# Altium integrated library Passive Components.IntLib: 149 symbols (part 2 of 2)
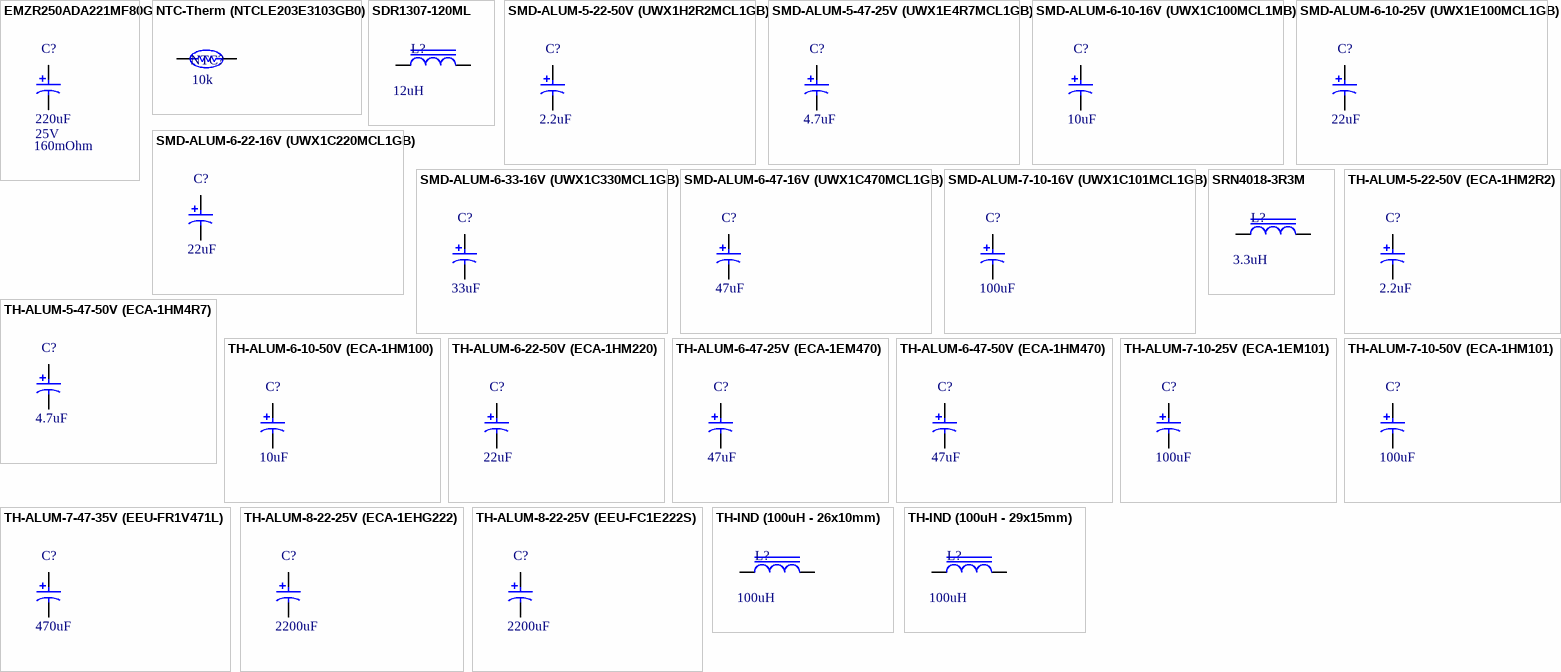
[diagram p6: symbols EMZR250ADA221MF80G to TH-IND (100uH - 29x15mm)]

## TH-ALUM-5-22-50V (ECA-1HM2R2)
designator C?, comment value 2.2uF  (hidden comment: Cap Aluminum)
CAP, ALUM, TH, 5x11mm, 2.2uF, 50V, 20%, Pitch 2mm; ReferencePart: ECA-1HM2R2; Voltage: 50V; ESR: *
footprint TH CAP-5X11MM-A1K2 (Aluminum Electrolytic Capacitor, Diameter 5mm, Height 11mm, Pitch 2mm)
pins: 1 A, 2 K

## TH-ALUM-5-47-50V (ECA-1HM4R7)
designator C?, comment value 4.7uF  (hidden comment: Cap Aluminum)
CAP, ALUM, TH, 5x11mm, 4.7uF, 50V, 20%, Pitch 2mm; ReferencePart: ECA-1HM4R7; Voltage: 50V; ESR: *
footprint TH CAP-5X11MM-A1K2 (Aluminum Electrolytic Capacitor, Diameter 5mm, Height 11mm, Pitch 2mm)
pins: 1 A, 2 K

## TH-ALUM-6-10-50V (ECA-1HM100)
designator C?, comment value 10uF  (hidden comment: Cap Aluminum)
CAP, ALUM, TH, 5x11mm, 10uF, 50V, 20%,, Pitch 2mm; ReferencePart: ECA-1HM100; Voltage: 50V; ESR: *; Supplier 1: Mouser; Supplier Part Number 1: 667-ECA-1HM100
footprint TH CAP-5X11MM-A1K2 (Aluminum Electrolytic Capacitor, Diameter 5mm, Height 11mm, Pitch 2mm)
pins: 1 A, 2 K

## TH-ALUM-6-22-50V (ECA-1HM220)
designator C?, comment value 22uF  (hidden comment: Cap Aluminum)
CAP, ALUM, TH, 5x11mm, 22uF, 50V, 20%, Pitch 2mm; ReferencePart: ECA-1HM220; Voltage: 50V; ESR: *
footprint TH CAP-5X11MM-A1K2 (Aluminum Electrolytic Capacitor, Diameter 5mm, Height 11mm, Pitch 2mm)
pins: 1 A, 2 K

## TH-ALUM-6-47-25V (ECA-1EM470)
designator C?, comment value 47uF  (hidden comment: Cap Aluminum)
CAP, ALUM, TH, 5x11mm, 47uF, 25V, 20%, , Pitch 2mm; ReferencePart: ECA-1EM470; Voltage: 25V; ESR: *
footprint TH CAP-5X11MM-A1K2 (Aluminum Electrolytic Capacitor, Diameter 5mm, Height 11mm, Pitch 2mm)
pins: 1 A, 2 K

## TH-ALUM-6-47-50V (ECA-1HM470)
designator C?, comment value 47uF  (hidden comment: Cap Aluminum)
CAP, ALUM, TH, 6.3x11mm, 47uF, 50V, 20%, Pitch 2.5mm; ReferencePart: ECA-1HM470; Voltage: 50V; ESR: *
footprint TH CAP-6.3X11MM-A1K2 (Aluminum Electrolytic Capacitor, Diameter 6.3mm, Height 11mm, Pitch 2.5mm)
pins: 1 A, 2 K

## TH-ALUM-7-10-25V (ECA-1EM101)
designator C?, comment value 100uF  (hidden comment: Cap Aluminum)
CAP, ALUM, TH, 6.3x11mm, 100uF, 25V, 20%, Pitch 2.5mm; ReferencePart: ECA-1EM101; Voltage: 25V; ESR: *; Supplier 1: Mouser; Supplier Part Number 1: 667-ECA-1EM101
footprint TH CAP-6.3X11MM-A1K2 (Aluminum Electrolytic Capacitor, Diameter 6.3mm, Height 11mm, Pitch 2.5mm)
pins: 1 A, 2 K

## TH-ALUM-7-10-50V (ECA-1HM101)
designator C?, comment value 100uF  (hidden comment: Cap Aluminum)
CAP, ALUM, TH, 8x11.5mm, 100uF, 50V, 20%, Pitch 3.5mm; ReferencePart: ECA-1HM101; Voltage: 50V; ESR: *; Supplier 1: Mouser; Supplier Part Number 1: 667-ECA-1HM101
footprint TH CAP-8X11.5MM-A1K2 (Aluminum Electrolytic Capacitor, Diameter 8mm, Height 11.5mm, Pitch 3.5mm)
pins: 1 A, 2 K

## TH-ALUM-7-47-35V (EEU-FR1V471L)
designator C?, comment value 470uF  (hidden comment: Cap Aluminum)
CAP, ALUM, TH, 18x20mm, 2200uF, 25V, 20%, Pitch 7.5mm; ReferencePart: EEU-FR1V471L; Voltage: 35V; ESR: *; Supplier 1: Mouser; Supplier Part Number 1: 667-EEU-FR1V471L
footprint TH CAP-8X20MM-A1K2 (Aluminum Electrolytic Capacitor, Diameter 8mm, Height 20mm, Pitch 3.5mm)
pins: 1 A, 2 K

## TH-ALUM-8-22-25V (ECA-1EHG222)
designator C?, comment value 2200uF  (hidden comment: Cap Aluminum)
CAP, ALUM, TH, 12.5x25mm, 2200uF, 25V, 20%, Pitch 5.0mm; ReferencePart: ECA-1EHG222; Voltage: 25V; ESR: *; Supplier 1: Mouser; Supplier Part Number 1: 667-ECA-1EHG222
footprint TH CAP-12.5X25MM-A1K2 (Aluminum Electrolytic Capacitor, Diameter 12.5mm, Height 25mm, Pitch 5.0mm)
pins: 1 A, 2 K

## TH-ALUM-8-22-25V (EEU-FC1E222S)
designator C?, comment value 2200uF  (hidden comment: Cap Aluminum)
CAP, ALUM, TH, 18x20mm, 2200uF, 25V, 20%, Pitch 7.5mm; ReferencePart: EEU-FC1E222S; Voltage: 25V; ESR: *; Supplier 1: Mouser; Supplier Part Number 1: 667-EEU-FC1E222S
footprint TH CAP-18X20MM-A1K2 (Aluminum Electrolytic Capacitor, Diameter 18mm, Height 20mm, Pitch 7.5mm)
pins: 1 A, 2 K

## TH-IND (100uH - 26x10mm)
designator L?, comment value 100uH  (hidden comment: Inductor)
IND, TH, 26x10mm; ReferencePart: ZJ42508TC
footprint TH IND 26x10mm (Inductor, ID 15.8mm, OD 26.29mm, Height 10mm, 16AWG)
footprint TH IND 26x10mm - 2 (Inductor, ID 15.8mm, OD 26.29mm, Height 10mm, 16AWG)
pins: 1, 2

## TH-IND (100uH - 29x15mm)
designator L?, comment value 100uH  (hidden comment: Inductor)
IND, TH, 29x15mm
footprint TH IND 29x15mm (Inductor, ID 18mm, OD 29mm, Height 15mm, 2x16AWG)
pins: 1, 2


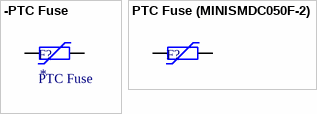
[diagram p4: symbols -PTC Fuse to PTC Fuse (MINISMDC050F-2)]

## -PTC Fuse
designator F?, comment PTC Fuse
PTC Resettable Fuse; Value: *
footprint PTC 1812_N (PTC Fuse, Body 4.5x3.2mm, IPC Medium Density)
pins: 1, 2
1 alternate drawing of the same symbol

## PTC Fuse (MINISMDC050F-2)
designator F?, comment PTC Fuse  (value not drawn)
Resettable Fuse, 1A, 24V; Value: MINISMDC050F-2; Supplier 1: Mouser; Supplier Part Number 1: 650-MINISMDC050F-2
footprint RES 1812_N (Chip Resistor, Body 4.5x3.2mm, IPC Medium Density)
pins: 1, 2
1 alternate drawing of the same symbol


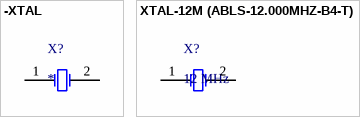
[diagram p5: symbols -XTAL to XTAL-12M (ABLS-12.000MHZ-B4-T)]

## -XTAL
designator X?
Crystal,; Frequency: *
footprint HC-49US (SMD, 2-Leads, Body 11.4x4.7mm, Height 3.3mm)
pins: 1 X1, 2 X2

## XTAL-12M (ABLS-12.000MHZ-B4-T)
designator X?, comment 12 MHz
Crystal, 12 MHz; Frequency: 12 MHz; Supplier 1: Mouser; Supplier Part Number 1: 815-ABLS-12.0M-T
footprint HC-49US (SMD, 2-Leads, Body 11.4x4.7mm, Height 3.3mm)
pins: 1 X1, 2 X2